# Altium footprint library Actives_Transistors.PcbLib: 9 footprints
Each footprint in its own frame and in the unit in brackets; x right, y up, seen from the top. Pads: shape width x height; smd on the part's side, far side on the other; paste and mask are expansions set on the pad; w line width, h text height; cw(c..) or ccw(c..) is an arc to the next point about the centre after c.
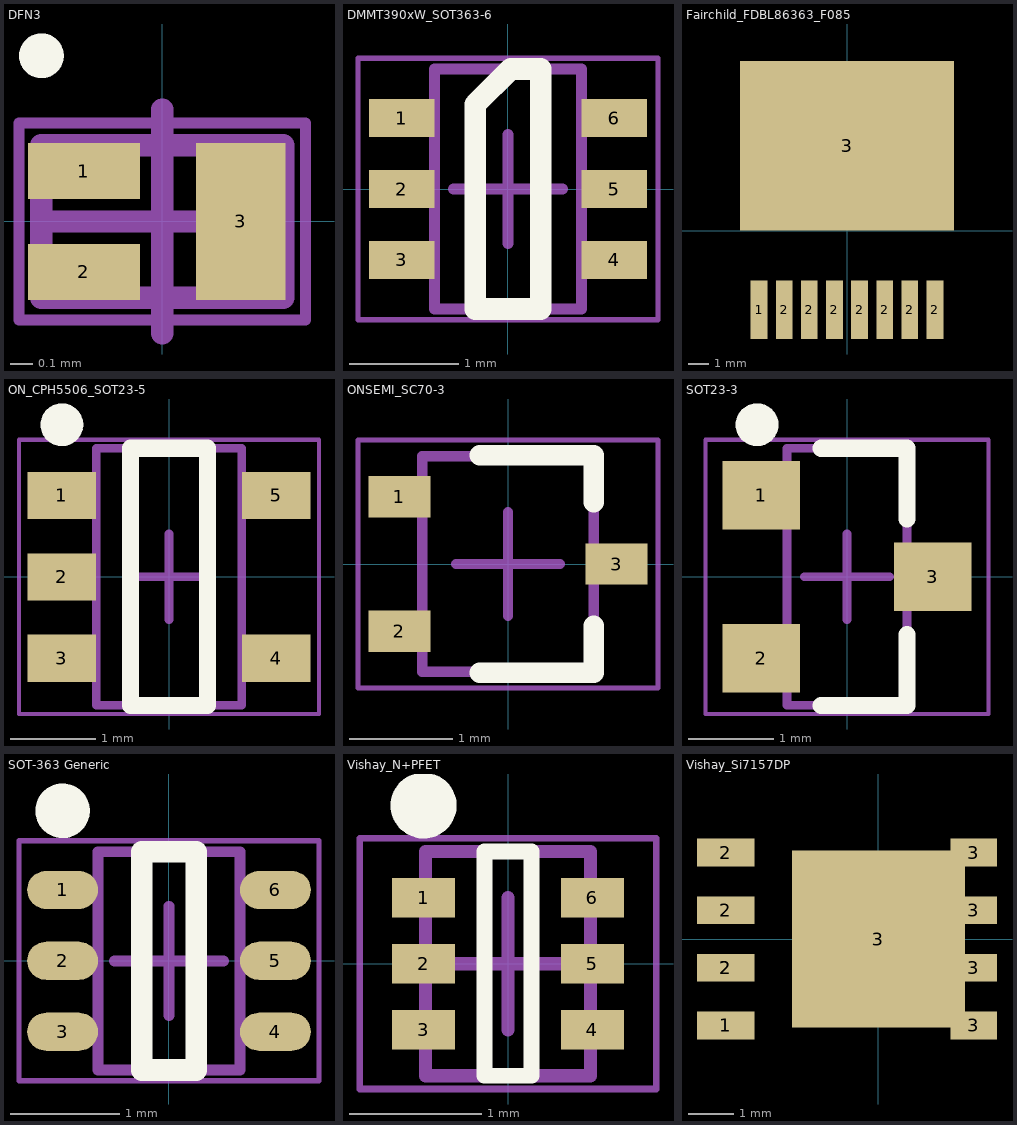
[diagram p0: the footprints below, top view; thin cyan lines are the x and y axes]

## DFN3 [mm] "DFN, 3-Leads, Body 0.61x1.01mm, Pitch 0.65mm, IPC High Density"
height 0.53
pads (3):
  rect 0.5x0.25 smd mask+0.05: 1(-0.35,0.225) 2(-0.35,-0.225)
  rect 0.4x0.7 smd mask+0.05: 3(0.35,0)
Top Overlay:
  circle w0.1: c-0.54,0.74 r0.05
Mechanical 13:
  lines w0.1: -0.54,-0.34 0.54,-0.34 0.54,0.34 -0.54,0.34 -0.54,-0.34
Mechanical 15:
  lines w0.05: -0.64,-0.44 0.64,-0.44 0.64,0.44 -0.64,0.44 -0.64,-0.44
  lines w0.1: -0.5,0 0.5,0 ; 0,-0.5 0,0.5
3D body "DFN3.step": height 0.53, standoff 0, extent -0.537,-0.337 0.538,0.338

## DMMT390xW_SOT363-6 [mm] "SOT23, 6-Leads, Body 2.00x2.10mm, Pitch 0.65mm, IPC High Density"
height 1.1
pads (6):
  rect 0.6x0.35 smd: 1(-0.975,0.65) 2(-0.975,0) 3(-0.975,-0.65) 4(0.975,-0.65) 5(0.975,0) 6(0.975,0.65)
Top Overlay:
  lines w0.2: -0.3,-1.1 0.3,-1.1 0.3,1.1 0.025,1.1 -0.3,0.775 -0.3,-1.1
Mechanical 13:
  lines w0.1: -0.675,-1.1 0.675,-1.1 0.675,1.1 -0.675,1.1 -0.675,-1.1
Mechanical 15:
  lines w0.05: -1.375,-1.2 1.375,-1.2 1.375,1.2 -1.375,1.2 -1.375,-1.2
  lines w0.1: -0.5,0 0.5,0 ; 0,-0.5 0,0.5
3D body "SOT23127P600-8N.step": height 1.1, standoff 0, extent -1.1,-1.1 1.1,1.1

## Fairchild_FDBL86363_F085 [mm] "TO_LL"
pads (9):
  rect 0.8x2.8 smd paste+0: 1(-4.2,-3.78) 2(-3,-3.78) 2(-1.8,-3.78) 2(-0.6,-3.78) 2(0.6,-3.78) 2(1.8,-3.78) 2(3,-3.78) 2(4.2,-3.78)
  rect 10.2x8.1 smd paste+0: 3(0,4.05)
3D body: height 3, standoff 0, extent -5,-5 5,8

## ON_CPH5506_SOT23-5 [mm] "SOT23, 5-Leads, Body 2.90x2.80mm, Pitch 0.95mm, IPC High Density"
height 0.95
pads (5):
  rect 0.8x0.55 smd: 1(-1.25,0.95) 2(-1.25,0) 3(-1.25,-0.95) 4(1.25,-0.95) 5(1.25,0.95)
Top Overlay:
  circle w0.25: c-1.25,1.775 r0.125
  lines w0.2: -0.45,-1.5 -0.45,1.5 0.45,1.5 0.45,-1.5 -0.45,-1.5
Mechanical 13:
  lines w0.1: -0.85,-1.5 0.85,-1.5 0.85,1.5 -0.85,1.5 -0.85,-1.5
Mechanical 15:
  lines w0.05: -1.75,-1.6 1.75,-1.6 1.75,1.6 -1.75,1.6 -1.75,-1.6
  lines w0.1: -0.5,0 0.5,0 ; 0,-0.5 0,0.5
3D body "ON_CPH5506_SOT23-5.step": height 0.95, standoff 0, extent -1.575,-1.5 1.575,1.5

## ONSEMI_SC70-3 [mm] "SOTFL, 3-Leads, Body 2.01x2.10mm, Pitch 0.65mm, IPC Medium Density"
height 0.9
pads (3):
  rect 0.6x0.4 smd: 1(-1.05,0.65) 2(-1.05,-0.65) 3(1.05,0)
Top Overlay:
  lines w0.2: -0.27,-1.05 0.83,-1.05 0.83,-0.6 ; -0.27,1.05 0.83,1.05 0.83,0.6
Mechanical 13:
  lines w0.1: -0.83,-1.04 -0.83,1.04 0.83,1.04 0.83,-1.04 -0.83,-1.04
Mechanical 15:
  lines w0.05: -1.45,-1.2 -1.45,1.2 1.45,1.2 1.45,-1.2 -1.45,-1.2
  lines w0.1: -0.5,0 0.5,0 ; 0,-0.5 0,0.5
3D body "ONSEMI_SC70-3.step": height 0.9, standoff 0, extent -1.05,-1.038 1.05,1.038

## SOT23-3 [mm] "SOT23, 3-Leads, Body 2.90x2.30mm, Pitch 0.95mm, IPC High Density"
height 1.1
pads (3):
  rect 0.9x0.8 smd: 1(-1,0.95) 2(-1,-0.95) 3(1,0)
Top Overlay:
  circle w0.25: c-1.05,1.775 r0.125
  lines w0.2: -0.3,-1.5 0.7,-1.5 0.7,-0.675 ; -0.3,1.5 0.7,1.5 0.7,0.675
Mechanical 13:
  lines w0.1: -0.7,-1.5 -0.7,1.5 0.7,1.5 0.7,-1.5 -0.7,-1.5
Mechanical 15:
  lines w0.05: -1.651,-1.6 -1.651,1.6 1.651,1.6 1.651,-1.6 -1.651,-1.6
  lines w0.1: -0.5,0 0.5,0 ; 0,-0.5 0,0.5
3D body "SOT23-3.step": height 1.1, standoff 0, extent -1.3,-1.5 1.3,1.5

## SOT-363 Generic [mm] "TSOP, 6-Leads, Body 2.00x1.25mm, Pitch 0.65mm, IPC High Density"
height 0.9
pads (6):
  oval 0.65x0.35 smd mask+0.05: 1(-0.975,0.65) 2(-0.975,0) 3(-0.975,-0.65) 4(0.975,-0.65) 5(0.975,0) 6(0.975,0.65)
Top Overlay:
  circle w0.25: c-0.975,1.375 r0.125
  lines w0.2: -0.25,-1 -0.25,1 0.25,1 0.25,-1 -0.25,-1
Mechanical 13:
  lines w0.1: -0.65,-1 -0.65,1 0.65,1 0.65,-1 -0.65,-1
Mechanical 15:
  lines w0.05: -1.375,-1.1 -1.375,1.1 1.375,1.1 1.375,-1.1 -1.375,-1.1
  lines w0.1: -0.5,0 0.5,0 ; 0,-0.5 0,0.5
3D body "SOT-363 Generic.step": height 0.9, standoff 0, extent -1.1,-1 1.1,1

## Vishay_N+PFET [mm] "SOT23, 6-Leads, Body 1.60x1.60mm, Pitch 0.50mm, IPC High Density"
height 0.6
pads (6):
  rect 0.478x0.3 smd mask+0.023: 1(-0.64,0.5) 2(-0.64,0) 3(-0.64,-0.5) 4(0.64,-0.5) 5(0.64,0) 6(0.64,0.5)
Top Overlay:
  circle w0.25: c-0.64,1.2 r0.125
  lines w0.12: -0.178,-0.85 -0.178,0.85 0.178,0.85 0.178,-0.85 -0.178,-0.85
Mechanical 13:
  lines w0.1: -0.625,-0.85 0.625,-0.85 0.625,0.85 -0.625,0.85 -0.625,-0.85
Mechanical 15:
  lines w0.05: -1.125,-0.95 1.125,-0.95 1.125,0.95 -1.125,0.95 -1.125,-0.95
  lines w0.1: -0.5,0 0.5,0 ; 0,-0.5 0,0.5
3D body "Vishay_N+PFET.step": height 0.6, standoff 0, extent -0.899,-0.85 0.899,0.85

## Vishay_Si7157DP [mm]
pads (10):
  rect 1.27x0.61 smd: 1(-3.36,-1.905) 2(-3.36,-0.635) 2(-3.36,-0.635) 2(-3.36,0.635) 2(-3.36,1.905)
  rect 3.81x3.91 smd: 3(0,0)
  rect 1.02x0.61 smd: 3(2.105,-1.905) 3(2.105,-0.635) 3(2.105,0.635) 3(2.105,1.905)
3D body: height 1, standoff 0, extent -3.75,-2.55 2.35,2.55
3D body: height 1.04, standoff 0, extent -1.524,-3.048 -1.524,-3.048